# Altium schematic symbol library TI.SchLib: 9 symbols
Pins are listed as number, name and electrical type; pins without a type are passive.

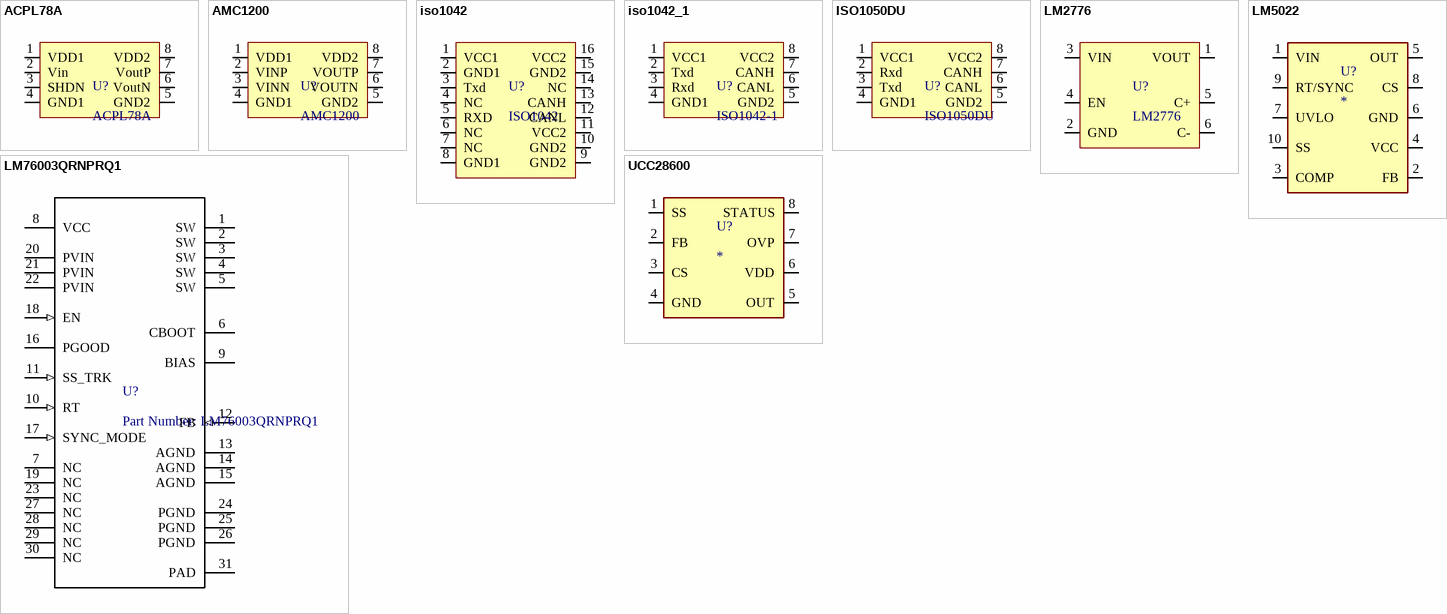
[diagram p0: symbols ACPL78A to UCC28600]

## ACPL78A
designator U?
footprint SOIC127P1150X318-8N-ACPL87A (SOIC, 8-Leads, Body 5.85x6.85mm, Pitch 1.27mm, IPC Medium Density)
pins: 1 VDD1, 2 Vin, 3 SHDN, 4 GND1, 5 GND2, 6 VoutN, 7 VoutP, 8 VDD2

## AMC1200
designator U?
footprint SOIC127P1110X280-8N-AMC (SOIC, 8-Leads, Body 5.85x7.50mm, Pitch 1.27mm, IPC Medium Density)
pins: 1 VDD1, 2 VINP, 3 VINN, 4 GND1, 5 GND2, 6 VOUTN, 7 VOUTP, 8 VDD2

## iso1042
designator U?, comment ISO1042
pins: 1 VCC1, 2 GND1, 3 Txd, 4 NC, 5 RXD, 6 NC, 7 NC, 8 GND1, 9 GND2, 10 GND2, 11 VCC2, 12 CANL, 13 CANH, 14 NC, 15 GND2, 16 VCC2

## iso1042_1
designator U?, comment ISO1042-1
footprint PG-DSO-8 (SOP, 8-Leads, Body 5,0x4,0mm (max), Pitch 1,27mm, IPC Medium Density)
pins: 1 VCC1, 2 Txd, 3 Rxd, 4 GND1, 5 GND2, 6 CANL, 7 CANH, 8 VCC2

## ISO1050DU
designator U?
ISO1050 Isolated CAN Transceiver
footprint PG-DSO-8 (SOP, 8-Leads, Body 5,0x4,0mm (max), Pitch 1,27mm, IPC Medium Density)
pins: 1 VCC1, 2 Rxd, 3 Txd, 4 GND1, 5 GND2, 6 CANL, 7 CANH, 8 VCC2

## LM2776
designator U?
Manufacturer: Texas Instruments; Part Number: LM2776
footprint SOT95P280X145-6N (SOT23, 6-Leads, Body 2.90x2.80mm, Pitch 0.95mm, IPC Medium Density)
pins: 1 VOUT, 2 GND, 3 VIN, 4 EN, 5 C+, 6 C-

## LM5022
designator U?
footprint TSSOP50P490X110-10N (TSSOP, 10-Leads, Body 3.00x3.00mm, Pitch 0.50mm, IPC Medium Density)
pins: 1 VIN, 2 FB, 3 COMP, 4 VCC, 5 OUT, 6 GND, 7 UVLO, 8 CS, 9 RT/SYNC, 10 SS

## LM76003QRNPRQ1
designator U?, comment Part Number: LM76003QRNPRQ1
No Description Available; Vendor: Texas Instruments; Built_By: Texas_Instrument_Team; Manufacturer_Part_Number: LM76003QRNPRQ1; Copyright: Copyright (C) 2018 Accelerated Designs. All rights reserved; RefDes: RefDes; Type: DEV; Value: Value
pins: 1 SW (power), 2 SW (power), 3 SW (power), 4 SW (power), 5 SW (power), 6 CBOOT (power), 7 NC, 8 VCC (power), 9 BIAS, 10 RT (in), 11 SS_TRK (in), 12 FB (in), 13 AGND (power), 14 AGND (power), 15 AGND (power), 16 PGOOD (oc), 17 SYNC_MODE (in), 18 EN (in), 19 NC, 20 PVIN (power), 21 PVIN (power), 22 PVIN (power), 23 NC, 24 PGND (power), 25 PGND (power), 26 PGND (power), 27 NC, 28 NC, 29 NC, 30 NC, 31 PAD (power)

## UCC28600
designator U?
footprint SOIC127P600X175-8N (SOIC, 8-Leads, Body 4.90x3.90mm, Pitch 1.27mm, IPC Medium Density)
pins: 1 SS, 2 FB, 3 CS, 4 GND, 5 OUT, 6 VDD, 7 OVP, 8 STATUS